# Altium footprint library F429_F746_F767_MB.PcbLib: 52 footprints (part 4 of 4)
Each footprint in its own frame and in the unit in brackets; x right, y up, seen from the top. Pads: shape width x height; smd on the part's side, far side on the other; paste and mask are expansions set on the pad; w line width, h text height; cw(c..) or ccw(c..) is an arc to the next point about the centre after c.
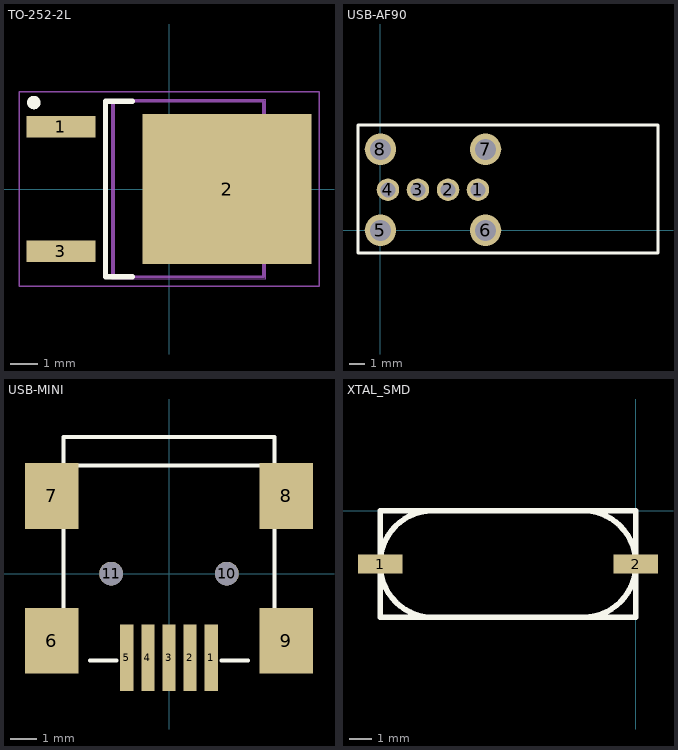
[diagram p3: the footprints below, top view; thin cyan lines are the x and y axes]

## TO-252-2L [mm]
height 2.4
pads (3):
  rect 2.55x0.8 smd: 1(-4,2.3) 3(-4,-2.3)
  rect 6.25x5.55 smd: 2(2.15,0)
Top Overlay:
  circle w0.25: c-5,3.2 r0.125
  lines w0.2: -1.35,-3.25 -2.35,-3.25 -2.35,3.25 -1.35,3.25
Top Paste:
  region: -0.25,-2.06 1.79,-2.06 1.79,-0.36 -0.25,-0.36
  region: 2.51,-2.06 4.55,-2.06 4.55,-0.36 2.51,-0.36
  region: -0.25,0.36 1.79,0.36 1.79,2.06 -0.25,2.06
  region: 2.51,0.36 4.55,0.36 4.55,2.06 2.51,2.06
Mechanical 1:
  lines w0.1: 3.5,-2.668 3.946,-2.668 4.85,-1.666 4.85,1.666 3.946,2.668 3.5,2.668 ; -2.05,-3.25 3.5,-3.25 3.5,3.25 -2.05,3.25 -2.05,-3.25
  text "UP1" at -0.852,-0.45 h0.75
Mechanical 16:
  circle w0.05: c0,0 r0.35
  lines w0.001: -2.125,-3.325 3.575,-3.325 3.575,3.325 -2.125,3.325 -2.125,-3.325
  lines w0.05: -0.5,0 0.5,0 ; 0,-0.5 0,0.5 ; -5.55,-3.6 5.55,-3.6 5.55,3.6 -5.55,3.6 -5.55,-3.6

## USB-AF90 [mm]
pads (8):
  rrect100% 1.5x1.5 hole 1: 1(6.5,2.7) 2(4.5,2.7) 3(2.5,2.7) 4(0.5,2.7)
  rrect100% 2.1x2.1 hole 1.4: 5(0,0) 6(7,0) 7(7,5.4) 8(0,5.4)
Top Overlay:
  lines w0.2: -1.5,-1.5 18.5,-1.5 18.5,7 -1.5,7 -1.5,-1.5

## USB-MINI [mm]
pads (11):
  rect 0.508x2.54 smd: 1(1.6,-3.2) 2(0.8,-3.2) 3(0,-3.2) 4(-0.8,-3.2) 5(-1.6,-3.2)
  rect 2.032x2.5 smd: 6(-4.45,-2.55) 7(-4.45,2.95) 8(4.45,2.95) 9(4.45,-2.55)
  round 0.9 hole 0.9 unplated: 10(2.2,0) 11(-2.2,0)
Top Overlay:
  lines w0.152: -4,-1.5 -4,1.9 ; -4,4 -4,5.2 4,5.2 4,4 ; -4,4.1 4,4.1 ; -3,-3.3 -2,-3.3 ; 2,-3.3 3,-3.3 ; 4,-1.5 4,1.9

## XTAL_SMD [mm]
pads (2):
  rect 2x0.85 smd: 1(-11.5,-2.4) 2(0,-2.4)
Top Overlay:
  lines w0.254: -11.5,-2.469 -11.5,-2.4 ; -11.5,-2.468 ccw(c-9.135,-2.435) -9.102,-4.8 ; -11.5,-2.398 cw(c-9.135,-2.365) -9.168,0 ; -2.398,0 cw(c-2.365,-2.365) 0,-2.332 ; -2.332,-4.8 ccw(c-2.365,-2.435) 0,-2.402 ; 0,-2.4 0,-2.331 ; -11.5,-4.8 -11.5,0 0,0 0,-4.8 -11.5,-4.8